# Altium footprint library SOP48P50_1280X780X200L75X25N.PcbLib: 1 footprints
Each footprint in its own frame and in the unit in brackets; x right, y up, seen from the top. Pads: shape width x height; smd on the part's side, far side on the other; paste and mask are expansions set on the pad; w line width, h text height; cw(c..) or ccw(c..) is an arc to the next point about the centre after c.
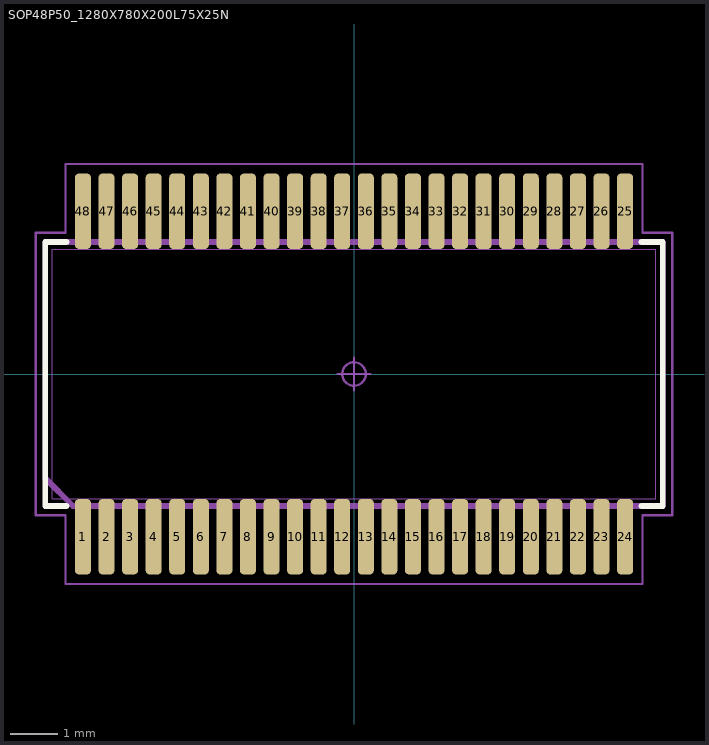
[diagram p0: the footprint, top view; thin cyan lines are the x and y axes]

## SOP48P50_1280X780X200L75X25N [mm] "Small Outline Pkg (SOP), 0.50 mm pitch; 48 pin, 12.80 mm L X 5.30 mm W X 2.00 mm H body"
height 2
pads (48):
  rrect50% 0.34x1.602 smd: 1(-5.75,-3.453) 2(-5.25,-3.453) 3(-4.75,-3.453) 4(-4.25,-3.453) 5(-3.75,-3.453) 6(-3.25,-3.453) 7(-2.75,-3.453) 8(-2.25,-3.453) 9(-1.75,-3.453) 10(-1.25,-3.453) 11(-0.75,-3.453) 12(-0.25,-3.453) 13(0.25,-3.453) 14(0.75,-3.453) 15(1.25,-3.453) 16(1.75,-3.453) 17(2.25,-3.453) 18(2.75,-3.453) 19(3.25,-3.453) 20(3.75,-3.453) 21(4.25,-3.453) 22(4.75,-3.453) 23(5.25,-3.453) 24(5.75,-3.453) 25(5.75,3.453) 26(5.25,3.453) 27(4.75,3.453) 28(4.25,3.453) 29(3.75,3.453) 30(3.25,3.453) 31(2.75,3.453) 32(2.25,3.453) 33(1.75,3.453) 34(1.25,3.453) 35(0.75,3.453) 36(0.25,3.453) 37(-0.25,3.453) 38(-0.75,3.453) 39(-1.25,3.453) 40(-1.75,3.453) 41(-2.25,3.453) 42(-2.75,3.453) 43(-3.25,3.453) 44(-3.75,3.453) 45(-4.25,3.453) 46(-4.75,3.453) 47(-5.25,3.453) 48(-5.75,3.453)
Top Overlay:
  lines w0.12: -6.1,-2.8 -6.55,-2.8 -6.55,2.8 -6.1,2.8 ; 6.1,-2.8 6.55,-2.8 6.55,2.8 6.1,2.8
Mechanical 3:
  lines w0.12: -6.55,-2.213 -5.963,-2.8 6.55,-2.8 6.55,2.8 -6.55,2.8 -6.55,-2.213
Mechanical 5:
  drawing of 196 lines, arcs and shapes, not listed
Mechanical 7:
  circle w0.05: c0,0 r0.25
  lines w0.05: -0.35,0 0.35,0 ; 0,-0.35 0,0.35 ; -6.75,-3 -6.75,3 -6.12,3 -6.12,4.454 6.12,4.454 6.12,3 6.75,3 6.75,-3 6.12,-3 6.12,-4.454 -6.12,-4.454 -6.12,-3 -6.75,-3
Mechanical 9:
  text ".Designator" at 0.254,0.762 h1.52
3D body "SOP48P50_1280X780X200L75X25.STEP": height 2, standoff 0, extent -6.4,-3.9 6.4,3.9
3D body: height 2.65, standoff 0, extent -6.75,-4.454 6.75,4.454
3D body "SOP48P50_1280X780X200L75X25.STEP": height 2, standoff 0, extent -6.4,-3.9 6.4,3.9